# Altium integrated library Altium_WE-PD2A (rev20a).IntLib: 94 symbols (part 2 of 2)
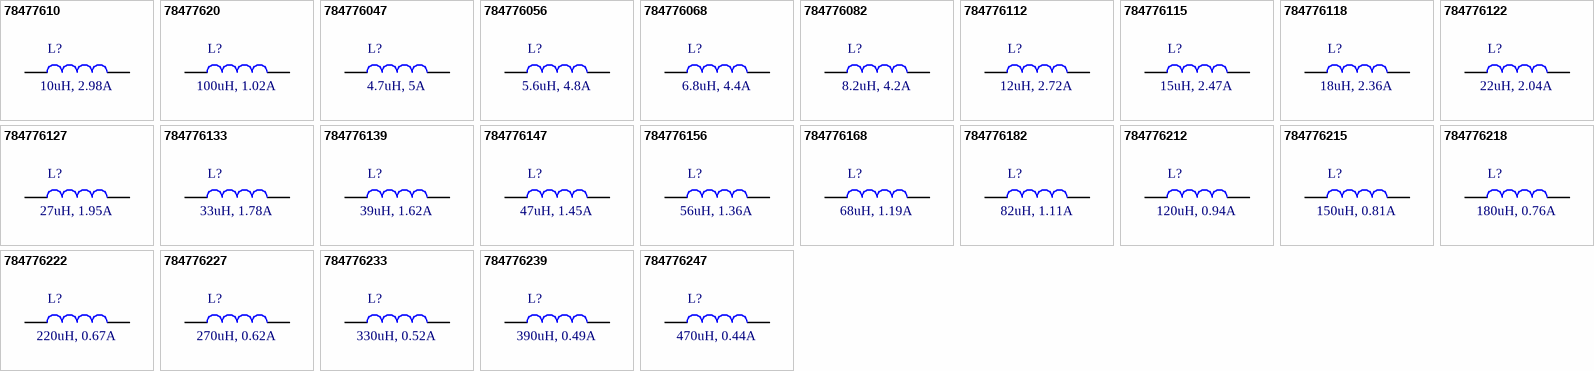
[diagram p4: symbols 78477610 to 784776247]

## 78477610
designator L?, comment 10uH, 2.98A
WE-PD2A SMT Power Inductor, size 1054, 10uH, 2.98A; Manufacturer Part Number: 78477610; Manufacturer: Wurth Elektronik; DC Resistance max.: 0.06Ohm; Saturation Current: 3.24A; Self Resonant Frequency: 27.52MHz; DC Resistance typ.: 0.028Ohm; Rated Voltage: 80VDC; ComponentLink1Description: Manufacturer; ComponentLink1URL: http://www.we-online.de; ComponentLink2Description: Datasheet; ComponentLink2URL: https://www.we-online.com/catalog/datasheet/78477610.pdf; Published Date: May 2020; Rated Current: 2.98A; Inductance: 10uH; Operating Temperature: -40 to +125degC; Mounting Technology: SMT; Packaging: Tape and Reel; Size: 1054
footprint WE-PD2A_1054
pins: 1, 2

## 78477620
designator L?, comment 100uH, 1.02A
WE-PD2A SMT Power Inductor, size 1054, 100uH, 1.02A; Manufacturer Part Number: 78477620; Manufacturer: Wurth Elektronik; DC Resistance max.: 0.35Ohm; Saturation Current: 1.1A; Self Resonant Frequency: 6.69MHz; DC Resistance typ.: 0.2Ohm; Rated Voltage: 80VDC; ComponentLink1Description: Manufacturer; ComponentLink1URL: http://www.we-online.de; ComponentLink2Description: Datasheet; ComponentLink2URL: https://www.we-online.com/catalog/datasheet/78477620.pdf; Published Date: May 2020; Rated Current: 1.02A; Inductance: 100uH; Operating Temperature: -40 to +125degC; Mounting Technology: SMT; Packaging: Tape and Reel; Size: 1054
footprint WE-PD2A_1054
pins: 1, 2

## 784776047
designator L?, comment 4.7uH, 5A
WE-PD2A SMT Power Inductor, size 1054, 4.7uH, 5A; Manufacturer Part Number: 784776047; Manufacturer: Wurth Elektronik; DC Resistance max.: 0.014Ohm; Saturation Current: 6A; Self Resonant Frequency: 46.14MHz; DC Resistance typ.: 0.012Ohm; Rated Voltage: 80VDC; ComponentLink1Description: Manufacturer; ComponentLink1URL: http://www.we-online.de; ComponentLink2Description: Datasheet; ComponentLink2URL: https://www.we-online.com/catalog/datasheet/784776047.pdf; Published Date: May 2020; Rated Current: 5A; Inductance: 4.7uH; Operating Temperature: -40 to +125degC; Mounting Technology: SMT; Packaging: Tape and Reel; Size: 1054
footprint WE-PD2A_1054
pins: 1, 2

## 784776056
designator L?, comment 5.6uH, 4.8A
WE-PD2A SMT Power Inductor, size 1054, 5.6uH, 4.8A; Manufacturer Part Number: 784776056; Manufacturer: Wurth Elektronik; DC Resistance max.: 0.018Ohm; Saturation Current: 5.5A; Self Resonant Frequency: 42.82MHz; DC Resistance typ.: 0.015Ohm; Rated Voltage: 80VDC; ComponentLink1Description: Manufacturer; ComponentLink1URL: http://www.we-online.de; ComponentLink2Description: Datasheet; ComponentLink2URL: https://www.we-online.com/catalog/datasheet/784776056.pdf; Published Date: May 2020; Rated Current: 4.8A; Inductance: 5.6uH; Operating Temperature: -40 to +125degC; Mounting Technology: SMT; Packaging: Tape and Reel; Size: 1054
footprint WE-PD2A_1054
pins: 1, 2

## 784776068
designator L?, comment 6.8uH, 4.4A
WE-PD2A SMT Power Inductor, size 1054, 6.8uH, 4.4A; Manufacturer Part Number: 784776068; Manufacturer: Wurth Elektronik; DC Resistance max.: 0.019Ohm; Saturation Current: 5A; Self Resonant Frequency: 30.46MHz; DC Resistance typ.: 0.016Ohm; Rated Voltage: 80VDC; ComponentLink1Description: Manufacturer; ComponentLink1URL: http://www.we-online.de; ComponentLink2Description: Datasheet; ComponentLink2URL: https://www.we-online.com/catalog/datasheet/784776068.pdf; Published Date: May 2020; Rated Current: 4.4A; Inductance: 6.8uH; Operating Temperature: -40 to +125degC; Mounting Technology: SMT; Packaging: Tape and Reel; Size: 1054
footprint WE-PD2A_1054
pins: 1, 2

## 784776082
designator L?, comment 8.2uH, 4.2A
WE-PD2A SMT Power Inductor, size 1054, 8.2uH, 4.2A; Manufacturer Part Number: 784776082; Manufacturer: Wurth Elektronik; DC Resistance max.: 0.024Ohm; Saturation Current: 4.25A; Self Resonant Frequency: 27.44MHz; DC Resistance typ.: 0.02Ohm; Rated Voltage: 80VDC; ComponentLink1Description: Manufacturer; ComponentLink1URL: http://www.we-online.de; ComponentLink2Description: Datasheet; ComponentLink2URL: https://www.we-online.com/catalog/datasheet/784776082.pdf; Published Date: May 2020; Rated Current: 4.2A; Inductance: 8.2uH; Operating Temperature: -40 to +125degC; Mounting Technology: SMT; Packaging: Tape and Reel; Size: 1054
footprint WE-PD2A_1054
pins: 1, 2

## 784776112
designator L?, comment 12uH, 2.72A
WE-PD2A SMT Power Inductor, size 1054, 12uH, 2.72A; Manufacturer Part Number: 784776112; Manufacturer: Wurth Elektronik; DC Resistance max.: 0.07Ohm; Saturation Current: 3.15A; Self Resonant Frequency: 26.1MHz; DC Resistance typ.: 0.033Ohm; Rated Voltage: 80VDC; ComponentLink1Description: Manufacturer; ComponentLink1URL: http://www.we-online.de; ComponentLink2Description: Datasheet; ComponentLink2URL: https://www.we-online.com/catalog/datasheet/784776112.pdf; Published Date: May 2020; Rated Current: 2.72A; Inductance: 12uH; Operating Temperature: -40 to +125degC; Mounting Technology: SMT; Packaging: Tape and Reel; Size: 1054
footprint WE-PD2A_1054
pins: 1, 2

## 784776115
designator L?, comment 15uH, 2.47A
WE-PD2A SMT Power Inductor, size 1054, 15uH, 2.47A; Manufacturer Part Number: 784776115; Manufacturer: Wurth Elektronik; DC Resistance max.: 0.08Ohm; Saturation Current: 2.88A; Self Resonant Frequency: 19.68MHz; DC Resistance typ.: 0.034Ohm; Rated Voltage: 80VDC; ComponentLink1Description: Manufacturer; ComponentLink1URL: http://www.we-online.de; ComponentLink2Description: Datasheet; ComponentLink2URL: https://www.we-online.com/catalog/datasheet/784776115.pdf; Published Date: May 2020; Rated Current: 2.47A; Inductance: 15uH; Operating Temperature: -40 to +125degC; Mounting Technology: SMT; Packaging: Tape and Reel; Size: 1054
footprint WE-PD2A_1054
pins: 1, 2

## 784776118
designator L?, comment 18uH, 2.36A
WE-PD2A SMT Power Inductor, size 1054, 18uH, 2.36A; Manufacturer Part Number: 784776118; Manufacturer: Wurth Elektronik; DC Resistance max.: 0.09Ohm; Saturation Current: 2.43A; Self Resonant Frequency: 16.92MHz; DC Resistance typ.: 0.043Ohm; Rated Voltage: 80VDC; ComponentLink1Description: Manufacturer; ComponentLink1URL: http://www.we-online.de; ComponentLink2Description: Datasheet; ComponentLink2URL: https://www.we-online.com/catalog/datasheet/784776118.pdf; Published Date: May 2020; Rated Current: 2.36A; Inductance: 18uH; Operating Temperature: -40 to +125degC; Mounting Technology: SMT; Packaging: Tape and Reel; Size: 1054
footprint WE-PD2A_1054
pins: 1, 2

## 784776122
designator L?, comment 22uH, 2.04A
WE-PD2A SMT Power Inductor, size 1054, 22uH, 2.04A; Manufacturer Part Number: 784776122; Manufacturer: Wurth Elektronik; DC Resistance max.: 0.1Ohm; Saturation Current: 2.07A; Self Resonant Frequency: 15.88MHz; DC Resistance typ.: 0.051Ohm; Rated Voltage: 80VDC; ComponentLink1Description: Manufacturer; ComponentLink1URL: http://www.we-online.de; ComponentLink2Description: Datasheet; ComponentLink2URL: https://www.we-online.com/catalog/datasheet/784776122.pdf; Published Date: May 2020; Rated Current: 2.04A; Inductance: 22uH; Operating Temperature: -40 to +125degC; Mounting Technology: SMT; Packaging: Tape and Reel; Size: 1054
footprint WE-PD2A_1054
pins: 1, 2

## 784776127
designator L?, comment 27uH, 1.95A
WE-PD2A SMT Power Inductor, size 1054, 27uH, 1.95A; Manufacturer Part Number: 784776127; Manufacturer: Wurth Elektronik; DC Resistance max.: 0.11Ohm; Saturation Current: 1.98A; Self Resonant Frequency: 14.1MHz; DC Resistance typ.: 0.063Ohm; Rated Voltage: 80VDC; ComponentLink1Description: Manufacturer; ComponentLink1URL: http://www.we-online.de; ComponentLink2Description: Datasheet; ComponentLink2URL: https://www.we-online.com/catalog/datasheet/784776127.pdf; Published Date: May 2020; Rated Current: 1.95A; Inductance: 27uH; Operating Temperature: -40 to +125degC; Mounting Technology: SMT; Packaging: Tape and Reel; Size: 1054
footprint WE-PD2A_1054
pins: 1, 2

## 784776133
designator L?, comment 33uH, 1.78A
WE-PD2A SMT Power Inductor, size 1054, 33uH, 1.78A; Manufacturer Part Number: 784776133; Manufacturer: Wurth Elektronik; DC Resistance max.: 0.12Ohm; Saturation Current: 1.89A; Self Resonant Frequency: 12.13MHz; DC Resistance typ.: 0.083Ohm; Rated Voltage: 80VDC; ComponentLink1Description: Manufacturer; ComponentLink1URL: http://www.we-online.de; ComponentLink2Description: Datasheet; ComponentLink2URL: https://www.we-online.com/catalog/datasheet/784776133.pdf; Published Date: May 2020; Rated Current: 1.78A; Inductance: 33uH; Operating Temperature: -40 to +125degC; Mounting Technology: SMT; Packaging: Tape and Reel; Size: 1054
footprint WE-PD2A_1054
pins: 1, 2

## 784776139
designator L?, comment 39uH, 1.62A
WE-PD2A SMT Power Inductor, size 1054, 39uH, 1.62A; Manufacturer Part Number: 784776139; Manufacturer: Wurth Elektronik; DC Resistance max.: 0.14Ohm; Saturation Current: 1.8A; Self Resonant Frequency: 11.08MHz; DC Resistance typ.: 0.098Ohm; Rated Voltage: 80VDC; ComponentLink1Description: Manufacturer; ComponentLink1URL: http://www.we-online.de; ComponentLink2Description: Datasheet; ComponentLink2URL: https://www.we-online.com/catalog/datasheet/784776139.pdf; Published Date: May 2020; Rated Current: 1.62A; Inductance: 39uH; Operating Temperature: -40 to +125degC; Mounting Technology: SMT; Packaging: Tape and Reel; Size: 1054
footprint WE-PD2A_1054
pins: 1, 2

## 784776147
designator L?, comment 47uH, 1.45A
WE-PD2A SMT Power Inductor, size 1054, 47uH, 1.45A; Manufacturer Part Number: 784776147; Manufacturer: Wurth Elektronik; DC Resistance max.: 0.17Ohm; Saturation Current: 1.62A; Self Resonant Frequency: 9.77MHz; DC Resistance typ.: 0.095Ohm; Rated Voltage: 80VDC; ComponentLink1Description: Manufacturer; ComponentLink1URL: http://www.we-online.de; ComponentLink2Description: Datasheet; ComponentLink2URL: https://www.we-online.com/catalog/datasheet/784776147.pdf; Published Date: May 2020; Rated Current: 1.45A; Inductance: 47uH; Operating Temperature: -40 to +125degC; Mounting Technology: SMT; Packaging: Tape and Reel; Size: 1054
footprint WE-PD2A_1054
pins: 1, 2

## 784776156
designator L?, comment 56uH, 1.36A
WE-PD2A SMT Power Inductor, size 1054, 56uH, 1.36A; Manufacturer Part Number: 784776156; Manufacturer: Wurth Elektronik; DC Resistance max.: 0.19Ohm; Saturation Current: 1.53A; Self Resonant Frequency: 9.17MHz; DC Resistance typ.: 0.112Ohm; Rated Voltage: 80VDC; ComponentLink1Description: Manufacturer; ComponentLink1URL: http://www.we-online.de; ComponentLink2Description: Datasheet; ComponentLink2URL: https://www.we-online.com/catalog/datasheet/784776156.pdf; Published Date: May 2020; Rated Current: 1.36A; Inductance: 56uH; Operating Temperature: -40 to +125degC; Mounting Technology: SMT; Packaging: Tape and Reel; Size: 1054
footprint WE-PD2A_1054
pins: 1, 2

## 784776168
designator L?, comment 68uH, 1.19A
WE-PD2A SMT Power Inductor, size 1054, 68uH, 1.19A; Manufacturer Part Number: 784776168; Manufacturer: Wurth Elektronik; DC Resistance max.: 0.22Ohm; Saturation Current: 1.49A; Self Resonant Frequency: 8.63MHz; DC Resistance typ.: 0.138Ohm; Rated Voltage: 80VDC; ComponentLink1Description: Manufacturer; ComponentLink1URL: http://www.we-online.de; ComponentLink2Description: Datasheet; ComponentLink2URL: https://www.we-online.com/catalog/datasheet/784776168.pdf; Published Date: May 2020; Rated Current: 1.19A; Inductance: 68uH; Operating Temperature: -40 to +125degC; Mounting Technology: SMT; Packaging: Tape and Reel; Size: 1054
footprint WE-PD2A_1054
pins: 1, 2

## 784776182
designator L?, comment 82uH, 1.11A
WE-PD2A SMT Power Inductor, size 1054, 82uH, 1.11A; Manufacturer Part Number: 784776182; Manufacturer: Wurth Elektronik; DC Resistance max.: 0.25Ohm; Saturation Current: 1.17A; Self Resonant Frequency: 7.09MHz; DC Resistance typ.: 0.15Ohm; Rated Voltage: 80VDC; ComponentLink1Description: Manufacturer; ComponentLink1URL: http://www.we-online.de; ComponentLink2Description: Datasheet; ComponentLink2URL: https://www.we-online.com/catalog/datasheet/784776182.pdf; Published Date: May 2020; Rated Current: 1.11A; Inductance: 82uH; Operating Temperature: -40 to +125degC; Mounting Technology: SMT; Packaging: Tape and Reel; Size: 1054
footprint WE-PD2A_1054
pins: 1, 2

## 784776212
designator L?, comment 120uH, 0.94A
WE-PD2A SMT Power Inductor, size 1054, 120uH, 0.94A; Manufacturer Part Number: 784776212; Manufacturer: Wurth Elektronik; DC Resistance max.: 0.4Ohm; Saturation Current: 0.99A; Self Resonant Frequency: 5.92MHz; DC Resistance typ.: 0.243Ohm; Rated Voltage: 80VDC; ComponentLink1Description: Manufacturer; ComponentLink1URL: http://www.we-online.de; ComponentLink2Description: Datasheet; ComponentLink2URL: https://www.we-online.com/catalog/datasheet/784776212.pdf; Published Date: May 2020; Rated Current: 0.94A; Inductance: 120uH; Operating Temperature: -40 to +125degC; Mounting Technology: SMT; Packaging: Tape and Reel; Size: 1054
footprint WE-PD2A_1054
pins: 1, 2

## 784776215
designator L?, comment 150uH, 0.81A
WE-PD2A SMT Power Inductor, size 1054, 150uH, 0.81A; Manufacturer Part Number: 784776215; Manufacturer: Wurth Elektronik; DC Resistance max.: 0.47Ohm; Saturation Current: 0.9A; Self Resonant Frequency: 5.52MHz; DC Resistance typ.: 0.3Ohm; Rated Voltage: 80VDC; ComponentLink1Description: Manufacturer; ComponentLink1URL: http://www.we-online.de; ComponentLink2Description: Datasheet; ComponentLink2URL: https://www.we-online.com/catalog/datasheet/784776215.pdf; Published Date: May 2020; Rated Current: 0.81A; Inductance: 150uH; Operating Temperature: -40 to +125degC; Mounting Technology: SMT; Packaging: Tape and Reel; Size: 1054
footprint WE-PD2A_1054
pins: 1, 2

## 784776218
designator L?, comment 180uH, 0.76A
WE-PD2A SMT Power Inductor, size 1054, 180uH, 0.76A; Manufacturer Part Number: 784776218; Manufacturer: Wurth Elektronik; DC Resistance max.: 0.63Ohm; Saturation Current: 0.78A; Self Resonant Frequency: 5.04MHz; DC Resistance typ.: 0.32Ohm; Rated Voltage: 80VDC; ComponentLink1Description: Manufacturer; ComponentLink1URL: http://www.we-online.de; ComponentLink2Description: Datasheet; ComponentLink2URL: https://www.we-online.com/catalog/datasheet/784776218.pdf; Published Date: May 2020; Rated Current: 0.76A; Inductance: 180uH; Operating Temperature: -40 to +125degC; Mounting Technology: SMT; Packaging: Tape and Reel; Size: 1054
footprint WE-PD2A_1054
pins: 1, 2

## 784776222
designator L?, comment 220uH, 0.67A
WE-PD2A SMT Power Inductor, size 1054, 220uH, 0.67A; Manufacturer Part Number: 784776222; Manufacturer: Wurth Elektronik; DC Resistance max.: 0.73Ohm; Saturation Current: 0.77A; Self Resonant Frequency: 4.55MHz; DC Resistance typ.: 0.451Ohm; Rated Voltage: 80VDC; ComponentLink1Description: Manufacturer; ComponentLink1URL: http://www.we-online.de; ComponentLink2Description: Datasheet; ComponentLink2URL: https://www.we-online.com/catalog/datasheet/784776222.pdf; Published Date: May 2020; Rated Current: 0.67A; Inductance: 220uH; Operating Temperature: -40 to +125degC; Mounting Technology: SMT; Packaging: Tape and Reel; Size: 1054
footprint WE-PD2A_1054
pins: 1, 2

## 784776227
designator L?, comment 270uH, 0.62A
WE-PD2A SMT Power Inductor, size 1054, 270uH, 0.62A; Manufacturer Part Number: 784776227; Manufacturer: Wurth Elektronik; DC Resistance max.: 0.97Ohm; Saturation Current: 0.68A; Self Resonant Frequency: 3.87MHz; DC Resistance typ.: 0.5Ohm; Rated Voltage: 80VDC; ComponentLink1Description: Manufacturer; ComponentLink1URL: http://www.we-online.de; ComponentLink2Description: Datasheet; ComponentLink2URL: https://www.we-online.com/catalog/datasheet/784776227.pdf; Published Date: May 2020; Rated Current: 0.62A; Inductance: 270uH; Operating Temperature: -40 to +125degC; Mounting Technology: SMT; Packaging: Tape and Reel; Size: 1054
footprint WE-PD2A_1054
pins: 1, 2

## 784776233
designator L?, comment 330uH, 0.52A
WE-PD2A SMT Power Inductor, size 1054, 330uH, 0.52A; Manufacturer Part Number: 784776233; Manufacturer: Wurth Elektronik; DC Resistance max.: 1.15Ohm; Saturation Current: 0.59A; Self Resonant Frequency: 3.57MHz; DC Resistance typ.: 0.75Ohm; Rated Voltage: 80VDC; ComponentLink1Description: Manufacturer; ComponentLink1URL: http://www.we-online.de; ComponentLink2Description: Datasheet; ComponentLink2URL: https://www.we-online.com/catalog/datasheet/784776233.pdf; Published Date: May 2020; Rated Current: 0.52A; Inductance: 330uH; Operating Temperature: -40 to +125degC; Mounting Technology: SMT; Packaging: Tape and Reel; Size: 1054
footprint WE-PD2A_1054
pins: 1, 2

## 784776239
designator L?, comment 390uH, 0.49A
WE-PD2A SMT Power Inductor, size 1054, 390uH, 0.49A; Manufacturer Part Number: 784776239; Manufacturer: Wurth Elektronik; DC Resistance max.: 1.3Ohm; Saturation Current: 0.54A; Self Resonant Frequency: 3.57MHz; DC Resistance typ.: 0.794Ohm; Rated Voltage: 80VDC; ComponentLink1Description: Manufacturer; ComponentLink1URL: http://www.we-online.de; ComponentLink2Description: Datasheet; ComponentLink2URL: https://www.we-online.com/catalog/datasheet/784776239.pdf; Published Date: May 2020; Rated Current: 0.49A; Inductance: 390uH; Operating Temperature: -40 to +125degC; Mounting Technology: SMT; Packaging: Tape and Reel; Size: 1054
footprint WE-PD2A_1054
pins: 1, 2

## 784776247
designator L?, comment 470uH, 0.44A
WE-PD2A SMT Power Inductor, size 1054, 470uH, 0.44A; Manufacturer Part Number: 784776247; Manufacturer: Wurth Elektronik; DC Resistance max.: 1.48Ohm; Saturation Current: 0.5A; Self Resonant Frequency: 2.94MHz; DC Resistance typ.: 0.969Ohm; Rated Voltage: 80VDC; ComponentLink1Description: Manufacturer; ComponentLink1URL: http://www.we-online.de; ComponentLink2Description: Datasheet; ComponentLink2URL: https://www.we-online.com/catalog/datasheet/784776247.pdf; Published Date: May 2020; Rated Current: 0.44A; Inductance: 470uH; Operating Temperature: -40 to +125degC; Mounting Technology: SMT; Packaging: Tape and Reel; Size: 1054
footprint WE-PD2A_1054
pins: 1, 2